# Altium footprint library Supernova Power.PcbLib: 51 footprints (part 2 of 4)
Each footprint in its own frame and in the unit in brackets; x right, y up, seen from the top. Pads: shape width x height; smd on the part's side, far side on the other; paste and mask are expansions set on the pad; w line width, h text height; cw(c..) or ccw(c..) is an arc to the next point about the centre after c.
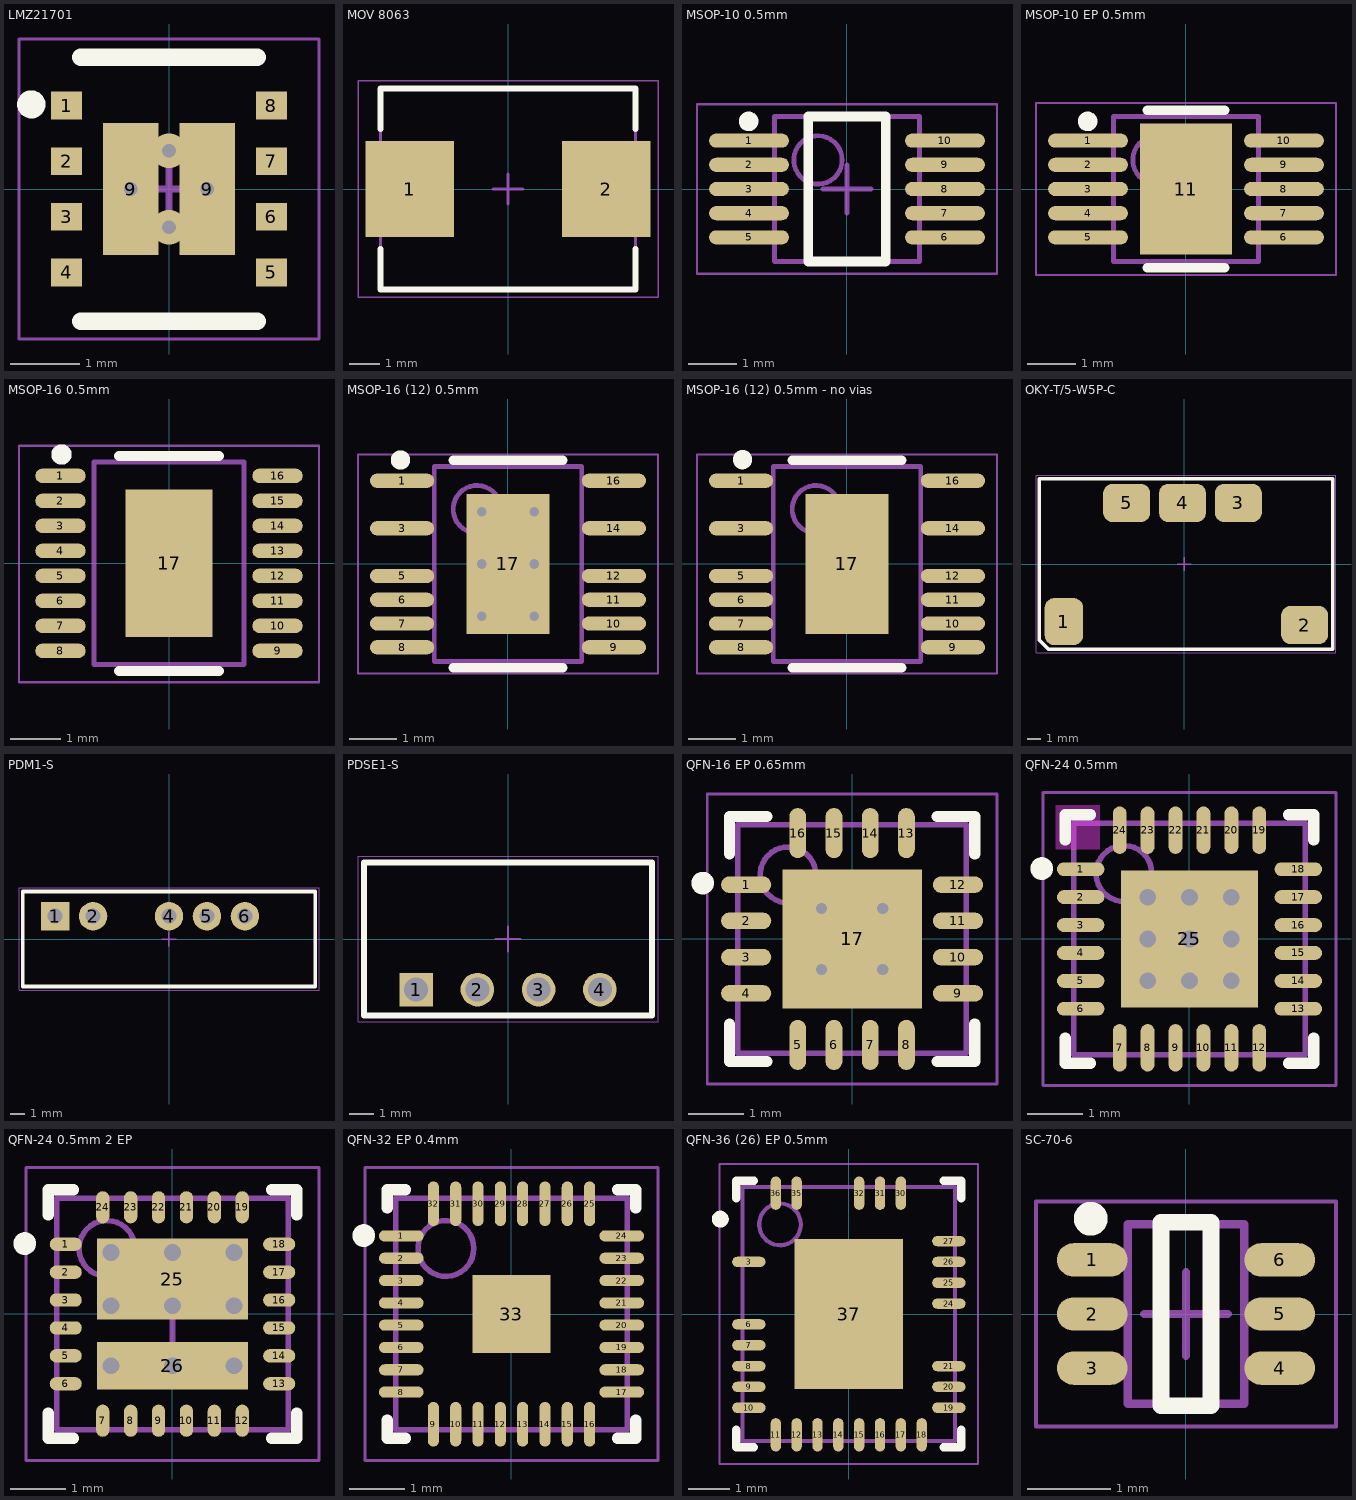
[diagram p1: the footprints below, top view; thin cyan lines are the x and y axes]

## LMZ21701 [mm]
pads (10):
  rect 0.45x0.4 smd mask+0.051: 1(-1.475,1.2) 2(-1.475,0.4) 3(-1.475,-0.4) 4(-1.475,-1.2) 5(1.475,-1.2) 6(1.475,-0.4) 7(1.475,0.4) 8(1.475,1.2)
  rect 0.8x1.9 smd mask+0.051: 9(-0.55,0) 9(0.55,0)
via 0.55,0 diameter 0.5 hole 0.2
via 0,0.55 diameter 0.5 hole 0.2
via 0,-0.55 diameter 0.5 hole 0.2
via -0.55,0 diameter 0.5 hole 0.2
Top Overlay:
  circle w0.203: c-1.982,1.218 r0.102
  lines w0.254: -1.27,-1.905 1.27,-1.905 ; -1.27,1.895 1.27,1.895
Top Courtyard:
  lines w0.05: -2.159,-2.159 2.159,-2.159 2.159,2.159 -2.159,2.159 -2.159,-2.159
  lines w0.1: -0.5,0 0.5,0 ; 0,-0.5 0,0.5
3D body: height 0.65, standoff 0, extent -1.75,-1.75 1.75,1.75
3D body: height 1.75, standoff 0.65, extent -1.25,-1 -0.65,1
3D body: height 1.75, standoff 0.65, extent -0.65,-1 0.65,1
3D body: height 1.75, standoff 0.65, extent 0.65,-1 1.25,1

## MOV 8063 [mm] "Molded Inductor, 2-Leads, Body 8.00x6.30mm, IPC Medium Density"
height 3.7
pads (2):
  rect 2.95x3.2 smd: 1(-3.275,0) 2(3.275,0)
Top Overlay:
  lines w0.2: -4.25,-2 -4.25,-3.35 4.25,-3.35 4.25,-2 ; -4.25,2 -4.25,3.35 4.25,3.35 4.25,2
Top 3D Body (Mech13):
  lines w0.1: -4.25,-3.35 -4.25,3.35 4.25,3.35 4.25,-3.35 -4.25,-3.35
Top Courtyard:
  lines w0.05: -5,-3.6 -5,3.6 5,3.6 5,-3.6 -5,-3.6
  lines w0.1: -0.5,0 0.5,0 ; 0,-0.5 0,0.5
3D body: height 3.7, standoff 0, extent -4.25,-3.35 4.25,3.35

## MSOP-10 0.5mm [mm] "TSSOP, 10-Leads, Body 3.00x3.00mm, Pitch 0.50mm, IPC Medium Density"
height 1.1
pads (10):
  oval 1.65x0.292 smd mask+0: 1(-2.025,1) 2(-2.025,0.5) 3(-2.025,0) 4(-2.025,-0.5) 5(-2.025,-1) 6(2.025,-1) 7(2.025,-0.5) 8(2.025,0) 9(2.025,0.5) 10(2.025,1)
Top Overlay:
  circle w0.203: c-2.032,1.397 r0.102
  lines w0.2: -0.8,-1.5 0.8,-1.5 0.8,1.5 -0.8,1.5 -0.8,-1.5
Top 3D Body (Mech13):
  circle w0.1: c-0.6,0.6 r0.5
  lines w0.1: -1.5,-1.5 1.5,-1.5 1.5,1.5 -1.5,1.5 -1.5,-1.5
Top Courtyard:
  lines w0.05: -3.1,-1.75 3.1,-1.75 3.1,1.75 -3.1,1.75 -3.1,-1.75
  lines w0.1: -0.5,0 0.5,0 ; 0,-0.5 0,0.5
3D body: height 1.1, standoff 0, extent -1.5,-1.5 1.5,1.5
3D body: height 0.2, standoff 0, extent -2.375,0.9 2.375,1.1
3D body: height 0.2, standoff 0, extent -2.375,0.4 2.375,0.6
3D body: height 0.2, standoff 0, extent -2.375,-0.1 2.375,0.1
3D body: height 0.2, standoff 0, extent -2.375,-0.6 2.375,-0.4
3D body: height 0.2, standoff 0, extent -2.375,-1.1 2.375,-0.9

## MSOP-10 EP 0.5mm [mm] "TSSOP, 10-Leads, Body 3.00x3.00mm, Pitch 0.50mm, IPC Medium Density"
height 1.1
pads (11):
  oval 1.65x0.292 smd mask+0: 1(-2.025,1) 2(-2.025,0.5) 3(-2.025,0) 4(-2.025,-0.5) 5(-2.025,-1) 6(2.025,-1) 7(2.025,-0.5) 8(2.025,0) 9(2.025,0.5) 10(2.025,1)
  rect 1.9x2.7 smd: 11(0,0)
Top Overlay:
  circle w0.203: c-2.032,1.397 r0.102
  lines w0.2: -0.8,-1.627 0.8,-1.627 ; -0.8,1.627 0.8,1.627
Top 3D Body (Mech13):
  circle w0.1: c-0.6,0.6 r0.5
  lines w0.1: -1.5,-1.5 -1.5,1.5 1.5,1.5 1.5,-1.5 -1.5,-1.5
Top Courtyard:
  lines w0.05: -3.1,-1.778 -3.1,1.778 3.1,1.778 3.1,-1.778 -3.1,-1.778
  lines w0.1: -0.5,0 0.5,0 ; 0,-0.5 0,0.5
3D body: height 0.2, standoff 0, extent -2.375,-1.1 2.375,-0.9
3D body: height 0.2, standoff 0, extent -2.375,-0.6 2.375,-0.4
3D body: height 0.2, standoff 0, extent -2.375,-0.1 2.375,0.1
3D body: height 0.2, standoff 0, extent -2.375,0.4 2.375,0.6
3D body: height 0.2, standoff 0, extent -2.375,0.9 2.375,1.1
3D body: height 1.1, standoff 0, extent -1.5,-1.5 1.5,1.5

## MSOP-16 0.5mm [mm] "MSOP-23, 16-Leads, Exposed Die Pad, Body 4.1x3.1mm"
height 1.1
pads (17):
  oval 1.01x0.292 smd mask+0: 1(-2.17,1.75) 2(-2.17,1.25) 3(-2.17,0.75) 4(-2.17,0.25) 5(-2.17,-0.25) 6(-2.17,-0.75) 7(-2.17,-1.25) 8(-2.17,-1.75) 9(2.17,-1.75) 10(2.17,-1.25) 11(2.17,-0.75) 12(2.17,-0.25) 13(2.17,0.25) 14(2.17,0.75) 15(2.17,1.25) 16(2.17,1.75)
  rect 1.75x2.945 smd paste-2 mask+0: 17(0,0)
Top Overlay:
  circle w0.203: c-2.152,2.177 r0.102
  lines w0.2: -1,-2.152 1,-2.152 ; -1,2.152 1,2.152
Top Paste:
  rectangle: -0.7,-1.25 0.7,-0.55
  rectangle: -0.7,0.55 0.7,1.25
  rectangle: -0.7,-0.35 0.7,0.35
Top 3D Body (Mech13):
  lines w0.1: -1.5,-2.025 1.5,-2.025 1.5,2.025 -1.5,2.025 -1.5,-2.025
Top Courtyard:
  lines w0.05: -3,-2.375 3,-2.375 3,2.35 -3,2.35 -3,-2.375
  lines w0.1: -0.5,0 0.5,0 ; 0,-0.5 0,0.5
3D body: height 1, standoff 0.01, extent -1.5,-2.025 1.5,2.025
3D body: height 0.2, standoff 0, extent -2.437,1.625 2.438,1.875
3D body: height 0.2, standoff 0, extent -2.437,1.125 2.438,1.375
3D body: height 0.2, standoff 0, extent -2.437,0.625 2.438,0.875
3D body: height 0.2, standoff 0, extent -2.437,0.125 2.438,0.375
3D body: height 0.2, standoff 0, extent -2.437,-0.375 2.438,-0.125
3D body: height 0.2, standoff 0, extent -2.437,-0.875 2.438,-0.625
3D body: height 0.2, standoff 0, extent -2.437,-1.375 2.438,-1.125
3D body: height 0.2, standoff 0, extent -2.437,-1.875 2.438,-1.625

## MSOP-16 (12) 0.5mm [mm] "TSSOP, 16-Leads, Body 4.00x3.00mm, Pitch 0.50mm, Thermal Pad 2.95x1.75mm, IPC Medium Density"
height 1.1
pads (13):
  oval 1.35x0.3 smd mask+0.025: 1(-2.225,1.75) 3(-2.225,0.75) 5(-2.225,-0.25) 6(-2.225,-0.75) 7(-2.225,-1.25) 8(-2.225,-1.75) 9(2.225,-1.75) 10(2.225,-1.25) 11(2.225,-0.75) 12(2.225,-0.25) 14(2.225,0.75) 16(2.225,1.75)
  rect 1.75x2.95 smd paste-2 mask+0.025: 17(0,0)
via -0.55,1.1 diameter 0.5 hole 0.2
via 0.55,1.1 diameter 0.5 hole 0.2
via -0.55,0 diameter 0.5 hole 0.2
via 0.55,0 diameter 0.5 hole 0.2
via -0.55,-1.1 diameter 0.5 hole 0.2
via 0.55,-1.1 diameter 0.5 hole 0.2
Top Overlay:
  circle w0.203: c-2.259,2.184 r0.102
  lines w0.2: -1.15,-2.177 1.15,-2.177 ; -1.15,2.177 1.15,2.177
Top Paste:
  rectangle: -0.7,-1.25 0.7,-0.55
  rectangle: -0.7,0.55 0.7,1.25
  rectangle: -0.7,-0.35 0.7,0.35
Top 3D Body (Mech13):
  circle w0.1: c-0.65,1.15 r0.5
  lines w0.1: -1.55,-2.05 -1.55,2.05 1.55,2.05 1.55,-2.05 -1.55,-2.05
Top Courtyard:
  lines w0.05: -3.15,-2.3 -3.15,2.3 3.15,2.3 3.15,-2.3 -3.15,-2.3
  lines w0.1: -0.5,0 0.5,0 ; 0,-0.5 0,0.5
3D body: height 0.2, standoff 0, extent -2.5,1.65 2.5,1.85
3D body: height 1.1, standoff 0.05, extent -1.55,-2.05 1.55,2.05
3D body: height 0.2, standoff 0, extent -2.5,0.65 2.5,0.85
3D body: height 0.2, standoff 0, extent -2.5,-0.35 2.5,-0.15
3D body: height 0.2, standoff 0, extent -2.5,-0.85 2.5,-0.65
3D body: height 0.2, standoff 0, extent -2.5,-1.35 2.5,-1.15
3D body: height 0.2, standoff 0, extent -2.5,-1.85 2.5,-1.65

## MSOP-16 (12) 0.5mm - no vias [mm] "TSSOP, 16-Leads, Body 4.00x3.00mm, Pitch 0.50mm, Thermal Pad 2.95x1.75mm, IPC Medium Density"
height 1.1
pads (13):
  oval 1.35x0.3 smd mask+0.025: 1(-2.225,1.75) 3(-2.225,0.75) 5(-2.225,-0.25) 6(-2.225,-0.75) 7(-2.225,-1.25) 8(-2.225,-1.75) 9(2.225,-1.75) 10(2.225,-1.25) 11(2.225,-0.75) 12(2.225,-0.25) 14(2.225,0.75) 16(2.225,1.75)
  rect 1.75x2.95 smd paste-2 mask+0.025: 17(0,0)
Top Overlay:
  circle w0.203: c-2.193,2.191 r0.102
  lines w0.2: -1.15,-2.177 1.15,-2.177 ; -1.15,2.177 1.15,2.177
Top Paste:
  rectangle: -0.7,-0.35 0.7,0.35
  rectangle: -0.7,0.55 0.7,1.25
  rectangle: -0.7,-1.25 0.7,-0.55
Top 3D Body (Mech13):
  circle w0.1: c-0.65,1.15 r0.5
  lines w0.1: -1.55,-2.05 1.55,-2.05 1.55,2.05 -1.55,2.05 -1.55,-2.05
Top Courtyard:
  lines w0.05: -3.15,-2.3 3.15,-2.3 3.15,2.3 -3.15,2.3 -3.15,-2.3
  lines w0.1: -0.5,0 0.5,0 ; 0,-0.5 0,0.5
3D body: height 0.2, standoff 0, extent -2.5,-1.85 2.5,-1.65
3D body: height 0.2, standoff 0, extent -2.5,-1.35 2.5,-1.15
3D body: height 0.2, standoff 0, extent -2.5,-0.85 2.5,-0.65
3D body: height 0.2, standoff 0, extent -2.5,-0.35 2.5,-0.15
3D body: height 0.2, standoff 0, extent -2.5,0.65 2.5,0.85
3D body: height 1.1, standoff 0.05, extent -1.55,-2.05 1.55,2.05
3D body: height 0.2, standoff 0, extent -2.5,1.65 2.5,1.85

## OKY-T/5-W5P-C [mil]
pads (5):
  rrect50% 110x135 smd: 1(-345,-165)
  rrect50% 135x110 smd: 2(345,-175) 3(155,175) 4(-5,175) 5(-165,175)
Top Overlay:
  lines w10: -415,-218.32 -415,245 425,245 425,-245 -388.32,-245 -415,-218.32
Top Courtyard:
  lines w1.97: -425,-255 -425,255 435,255 435,-255 -425,-255
  lines w3.94: -19.69,0 19.68,0 ; 0,-19.68 0,19.68
3D body "mps_dcdc_oky_t3_t5_w5_a.step": height 277.59, standoff -1.39, extent -405,-235 415,235

## PDM1-S [mm]
pads (5):
  rect 1.905x1.905 hole 1: 1(-7.62,1.524)
  round 1.905 hole 1: 2(-5.08,1.524) 4(0,1.524) 5(2.54,1.524) 6(5.08,1.524)
Top Overlay:
  lines w0.254: -9.779,-3.175 -9.779,3.175 9.779,3.175 9.779,-3.175 -9.779,-3.175
Top Courtyard:
  lines w0.05: -10.033,-3.429 10.033,-3.429 10.033,3.429 -10.033,3.429 -10.033,-3.429
  lines w0.1: -0.5,0 0.5,0 ; 0,-0.5 0,0.5
3D body: height 0, standoff -3, extent -7.998,1.144 -7.239,1.904
3D body: height 0, standoff -3, extent 4.702,1.144 5.461,1.904
3D body: height 0, standoff -3, extent 2.162,1.144 2.921,1.904
3D body: height 0, standoff -3, extent -0.378,1.144 0.381,1.904
3D body: height 0, standoff -3, extent -5.458,1.144 -4.699,1.904
3D body: height 10.16, standoff 0, extent -9.652,-3.048 9.652,3.048

## PDSE1-S [mm]
pads (4):
  rect 1.397x1.397 hole 1: 1(-3.81,-2.1)
  round 1.397 hole 1: 2(-1.27,-2.1) 3(1.27,-2.1) 4(3.81,-2.1)
Top Overlay:
  lines w0.254: -5.969,-3.175 5.969,-3.175 5.969,3.175 -5.969,3.175 -5.969,-3.175
Top Courtyard:
  lines w0.05: -6.223,-3.429 -6.223,3.429 6.223,3.429 6.223,-3.429 -6.223,-3.429
  lines w0.1: -0.5,0 0.5,0 ; 0,-0.5 0,0.5
3D body: height 0, standoff -3, extent -4.188,-2.48 -3.429,-1.72
3D body: height 0, standoff -3, extent -1.648,-2.48 -0.889,-1.72
3D body: height 0, standoff -3, extent 0.892,-2.48 1.651,-1.72
3D body: height 0, standoff -3, extent 3.432,-2.48 4.191,-1.72
3D body: height 10.16, standoff 0, extent -5.8,-3 5.8,3

## QFN-16 EP 0.65mm [mm] "QFN, 16-Leads, Body 4.00x4.00mm, Pitch 0.65mm, Thermal Pad 2.50x2.50mm, IPC Medium Density"
height 0.8
pads (17):
  oval 0.9x0.3 smd: 1(-1.9,0.975) 2(-1.9,0.325) 3(-1.9,-0.325) 4(-1.9,-0.975) 9(1.9,-0.975) 10(1.9,-0.325) 11(1.9,0.325) 12(1.9,0.975)
  oval 0.3x0.9 smd: 5(-0.975,-1.9) 6(-0.325,-1.9) 7(0.325,-1.9) 8(0.975,-1.9) 13(0.975,1.9) 14(0.325,1.9) 15(-0.325,1.9) 16(-0.975,1.9)
  rect 2.5x2.5 smd paste+0 mask+0: 17(0,0)
via 0.55,-0.55 diameter 0.5 hole 0.2
via -0.55,-0.55 diameter 0.5 hole 0.2
via 0.55,0.55 diameter 0.5 hole 0.2
via -0.55,0.55 diameter 0.5 hole 0.2
Top Overlay:
  circle w0.203: c-2.681,1.003 r0.102
  lines w0.2: -2.2,-1.525 -2.2,-2.2 -1.525,-2.2 ; -2.2,1.525 -2.2,2.2 -1.525,2.2 ; 1.525,-2.2 2.2,-2.2 2.2,-1.525 ; 1.525,2.2 2.2,2.2 2.2,1.525
Top 3D Body (Mech13):
  circle w0.1: c-1.15,1.15 r0.5
  lines w0.1: -2.05,-2.05 2.05,-2.05 2.05,2.05 -2.05,2.05 -2.05,-2.05
Top Courtyard:
  lines w0.05: -2.6,-2.6 2.6,-2.6 2.6,2.6 -2.6,2.6 -2.6,-2.6
  lines w0.1: -0.5,0 0.5,0 ; 0,-0.5 0,0.5
3D body: height 0.8, standoff 0.01, extent -2.05,-2.05 2.05,2.05

## QFN-24 0.5mm [mm] "QFN, 24-Leads, Body 4.00x4.00mm, Pitch 0.50mm, Thermal Pad 2.45x2.45mm, IPC Medium Density"
height 0.8
pads (25):
  oval 0.85x0.25 smd mask+0.025: 1(-1.95,1.25) 2(-1.95,0.75) 3(-1.95,0.25) 4(-1.95,-0.25) 5(-1.95,-0.75) 6(-1.95,-1.25) 13(1.95,-1.25) 14(1.95,-0.75) 15(1.95,-0.25) 16(1.95,0.25) 17(1.95,0.75) 18(1.95,1.25)
  oval 0.25x0.85 smd mask+0.025: 7(-1.25,-1.95) 8(-0.75,-1.95) 9(-0.25,-1.95) 10(0.25,-1.95) 11(0.75,-1.95) 12(1.25,-1.95) 19(1.25,1.95) 20(0.75,1.95) 21(0.25,1.95) 22(-0.25,1.95) 23(-0.75,1.95) 24(-1.25,1.95)
  rect 2.45x2.45 smd paste-3 mask+0.025: 25(0,0)
via 0,0 diameter 0.5 hole 0.3
via 0.75,0 diameter 0.5 hole 0.3
via 0,0.75 diameter 0.5 hole 0.3
via -0.75,0 diameter 0.5 hole 0.3
via 0,-0.75 diameter 0.5 hole 0.3
via -0.75,-0.75 diameter 0.5 hole 0.3
via 0.75,-0.75 diameter 0.5 hole 0.3
via -0.75,0.75 diameter 0.5 hole 0.3
via 0.75,0.75 diameter 0.5 hole 0.3
Top Layer keep-out:
  rectangle: -2.4,1.6 -1.6,2.4
Top Overlay:
  circle w0.203: c-2.649,1.262 r0.102
  lines w0.2: -2.225,-1.775 -2.225,-2.225 -1.775,-2.225 ; -2.225,1.775 -2.225,2.225 -1.775,2.225 ; 1.775,-2.225 2.225,-2.225 2.225,-1.775 ; 1.775,2.225 2.225,2.225 2.225,1.775
Top Paste:
  rectangle: -1.15,0.15 -0.15,1.15
  region: -0.15,-1.15 -0.15,-0.15 -1.15,-0.15 -1.15,-1.15
  region: 1.15,-0.15 0.15,-0.15 0.15,-1.15 1.15,-1.15
  region: 0.15,1.15 0.15,0.15 1.15,0.15 1.15,1.15
Top 3D Body (Mech13):
  circle w0.1: c-1.175,1.175 r0.5
  lines w0.1: -2.075,-2.075 -2.075,2.075 2.075,2.075 2.075,-2.075 -2.075,-2.075
Top Courtyard:
  lines w0.05: -2.625,-2.625 -2.625,2.625 2.625,2.625 2.625,-2.625 -2.625,-2.625
  lines w0.1: -0.5,0 0.5,0 ; 0,-0.5 0,0.5
3D body: height 0.8, standoff 0.01, extent -2.075,-2.075 2.075,2.075

## QFN-24 0.5mm 2 EP [mm] "QFN, 24-Leads, Body 4.00x4.00mm, Pitch 0.50mm, Thermal Pad 2.45x2.45mm, IPC Medium Density"
height 0.8
pads (26):
  oval 0.575x0.24 smd mask+0.025: 1(-1.913,1.25) 2(-1.913,0.75) 3(-1.913,0.25) 4(-1.913,-0.25) 5(-1.913,-0.75) 6(-1.913,-1.25) 13(1.913,-1.25) 14(1.913,-0.75) 15(1.913,-0.25) 16(1.913,0.25) 17(1.913,0.75) 18(1.913,1.25)
  oval 0.24x0.575 smd mask+0.025: 7(-1.25,-1.913) 8(-0.75,-1.913) 9(-0.25,-1.913) 10(0.25,-1.913) 11(0.75,-1.913) 12(1.25,-1.913) 19(1.25,1.913) 20(0.75,1.913) 21(0.25,1.913) 22(-0.25,1.913) 23(-0.75,1.913) 24(-1.25,1.913)
  rect 2.7x1.45 smd paste-3 mask+0.025: 25(0,0.625)
  rect 2.7x0.85 smd paste-3 mask+0.025: 26(0,-0.925)
via 1.1,1.1 diameter 0.45 hole 0.3
via -1.1,1.1 diameter 0.45 hole 0.3
via 1.1,-0.925 diameter 0.45 hole 0.3
via -1.1,-0.925 diameter 0.45 hole 0.3
via 0,-0.925 diameter 0.45 hole 0.3
via -1.1,0.15 diameter 0.45 hole 0.3
via 0,1.1 diameter 0.45 hole 0.3
via 1.1,0.15 diameter 0.45 hole 0.3
via 0,0.15 diameter 0.45 hole 0.3
Top Overlay:
  circle w0.203: c-2.649,1.262 r0.102
  lines w0.2: -2.225,-1.775 -2.225,-2.225 -1.775,-2.225 ; -2.225,1.775 -2.225,2.225 -1.775,2.225 ; 1.775,-2.225 2.225,-2.225 2.225,-1.775 ; 1.775,2.225 2.225,2.225 2.225,1.775
Top Paste:
  region: 1.288,-1.305 1.288,-0.545 0.1,-0.545 0.1,-1.305
  rectangle: -1.288,-0.025 -0.1,1.275
  region: 1.288,1.275 0.1,1.275 0.1,-0.025 1.288,-0.025
  region: -0.1,-1.305 -0.1,-0.545 -1.288,-0.545 -1.288,-1.305
Top 3D Body (Mech13):
  circle w0.1: c-1.175,1.175 r0.5
  lines w0.1: -2.075,-2.075 2.075,-2.075 2.075,2.075 -2.075,2.075 -2.075,-2.075
Top Courtyard:
  lines w0.05: -2.625,-2.625 2.625,-2.625 2.625,2.625 -2.625,2.625 -2.625,-2.625
  lines w0.1: -0.5,0 0.5,0 ; 0,-0.5 0,0.5
3D body: height 0.8, standoff 0.01, extent -2.075,-2.075 2.075,2.075

## QFN-32 EP 0.4mm [mm] "QFN, 32-Leads, Body 4.00x4.00mm, Pitch 0.40mm, Thermal Pad 1.40x1.40mm, IPC Medium Density"
height 1
pads (33):
  oval 0.8x0.2 smd mask+0: 1(-1.975,1.4) 2(-1.975,1) 3(-1.975,0.6) 4(-1.975,0.2) 5(-1.975,-0.2) 6(-1.975,-0.6) 7(-1.975,-1) 8(-1.975,-1.4) 17(1.975,-1.4) 18(1.975,-1) 19(1.975,-0.6) 20(1.975,-0.2) 21(1.975,0.2) 22(1.975,0.6) 23(1.975,1) 24(1.975,1.4)
  oval 0.2x0.8 smd mask+0: 9(-1.4,-1.975) 10(-1,-1.975) 11(-0.6,-1.975) 12(-0.2,-1.975) 13(0.2,-1.975) 14(0.6,-1.975) 15(1,-1.975) 16(1.4,-1.975) 25(1.4,1.975) 26(1,1.975) 27(0.6,1.975) 28(0.2,1.975) 29(-0.2,1.975) 30(-0.6,1.975) 31(-1,1.975) 32(-1.4,1.975)
  rect 1.4x1.4 smd mask+0: 33(0,0)
Top Overlay:
  circle w0.203: c-2.649,1.405 r0.102
  lines w0.2: -2.225,-1.9 -2.225,-2.225 -1.9,-2.225 ; -2.225,1.9 -2.225,2.225 -1.9,2.225 ; 1.9,-2.225 2.225,-2.225 2.225,-1.9 ; 1.9,2.225 2.225,2.225 2.225,1.9
Top 3D Body (Mech13):
  circle w0.1: c-1.175,1.175 r0.5
  lines w0.1: -2.075,-2.075 2.075,-2.075 2.075,2.075 -2.075,2.075 -2.075,-2.075
Top Courtyard:
  lines w0.05: -2.625,-2.625 2.625,-2.625 2.625,2.625 -2.625,2.625 -2.625,-2.625
  lines w0.1: -0.5,0 0.5,0 ; 0,-0.5 0,0.5
3D body: height 1, standoff 0.01, extent -2.075,-2.075 2.075,2.075

## QFN-36 (26) EP 0.5mm [mm] "QFN, 36-Leads, Body 5.00x6.00mm, Pitch 0.50mm, Thermal Pad 2.60x3.60mm, IPC Medium Density"
height 0.8
pads (27):
  oval 0.8x0.25 smd mask+0.025: 3(-2.4,1.25) 6(-2.4,-0.25) 7(-2.4,-0.75) 8(-2.4,-1.25) 9(-2.4,-1.75) 10(-2.4,-2.25) 19(2.4,-2.25) 20(2.4,-1.75) 21(2.4,-1.25) 24(2.4,0.25) 25(2.4,0.75) 26(2.4,1.25) 27(2.4,1.75)
  oval 0.25x0.8 smd mask+0.025: 11(-1.75,-2.9) 12(-1.25,-2.9) 13(-0.75,-2.9) 14(-0.25,-2.9) 15(0.25,-2.9) 16(0.75,-2.9) 17(1.25,-2.9) 18(1.75,-2.9) 30(1.25,2.9) 31(0.75,2.9) 32(0.25,2.9) 35(-1.25,2.9) 36(-1.75,2.9)
  rect 2.6x3.6 smd paste-2: 37(0,0)
Top Overlay:
  circle w0.203: c-3.083,2.276 r0.102
  lines w0.2: -2.7,-2.775 -2.7,-3.2 -2.275,-3.2 ; -2.7,2.775 -2.7,3.2 -2.275,3.2 ; 2.275,-3.2 2.7,-3.2 2.7,-2.775 ; 2.275,3.2 2.7,3.2 2.7,2.775
Top Paste:
  rectangle: 0.1,0.1 1.1,1.7
  region: -0.1,1.7 -1.1,1.7 -1.1,0.1 -0.1,0.1
  region: -0.1,-0.1 -1.1,-0.1 -1.1,-1.7 -0.1,-1.7
  rectangle: 0.1,-1.7 1.1,-0.1
Top 3D Body (Mech13):
  circle w0.1: c-1.65,2.15 r0.5
  lines w0.1: -2.55,-3.05 -2.55,3.05 2.55,3.05 2.55,-3.05 -2.55,-3.05
Top Courtyard:
  lines w0.05: -3.1,-3.6 -3.1,3.6 3.1,3.6 3.1,-3.6 -3.1,-3.6
  lines w0.1: -0.5,0 0.5,0 ; 0,-0.5 0,0.5
3D body: height 0.8, standoff 0, extent -2.55,-3.05 2.55,3.05

## SC-70-6 [mm] "SOT23, 6-Leads, Body 2.00x2.10mm, Pitch 0.65mm, IPC Medium Density"
height 1.1
pads (6):
  oval 0.85x0.4 smd mask+0.025: 1(-1.125,0.65) 2(-1.125,0) 3(-1.125,-0.65) 4(1.125,-0.65) 5(1.125,0) 6(1.125,0.65)
Top Overlay:
  circle w0.203: c-1.143,1.143 r0.102
  lines w0.2: -0.3,-1.1 0.3,-1.1 0.3,1.1 -0.3,1.1 -0.3,-1.1
Top 3D Body (Mech13):
  lines w0.1: -0.7,-1.075 -0.7,1.075 0.7,1.075 0.7,-1.075 -0.7,-1.075
Top Courtyard:
  lines w0.05: -1.8,-1.35 -1.8,1.35 1.8,1.35 1.8,-1.35 -1.8,-1.35
  lines w0.1: -0.5,0 0.5,0 ; 0,-0.5 0,0.5
3D body: height 1.1, standoff 0.05, extent -0.7,-1.075 0.7,1.075
3D body: height 0.2, standoff 0, extent -1.27,0.472 1.27,0.809
3D body: height 0.2, standoff 0, extent -1.27,-0.178 1.27,0.159
3D body: height 0.2, standoff 0, extent -1.27,-0.828 1.27,-0.491